# Altium footprint library Virtex.PcbLib: 22 footprints (part 1 of 2)
Each footprint in its own frame and in the unit in brackets; x right, y up, seen from the top. Pads: shape width x height; smd on the part's side, far side on the other; paste and mask are expansions set on the pad; w line width, h text height; cw(c..) or ccw(c..) is an arc to the next point about the centre after c.
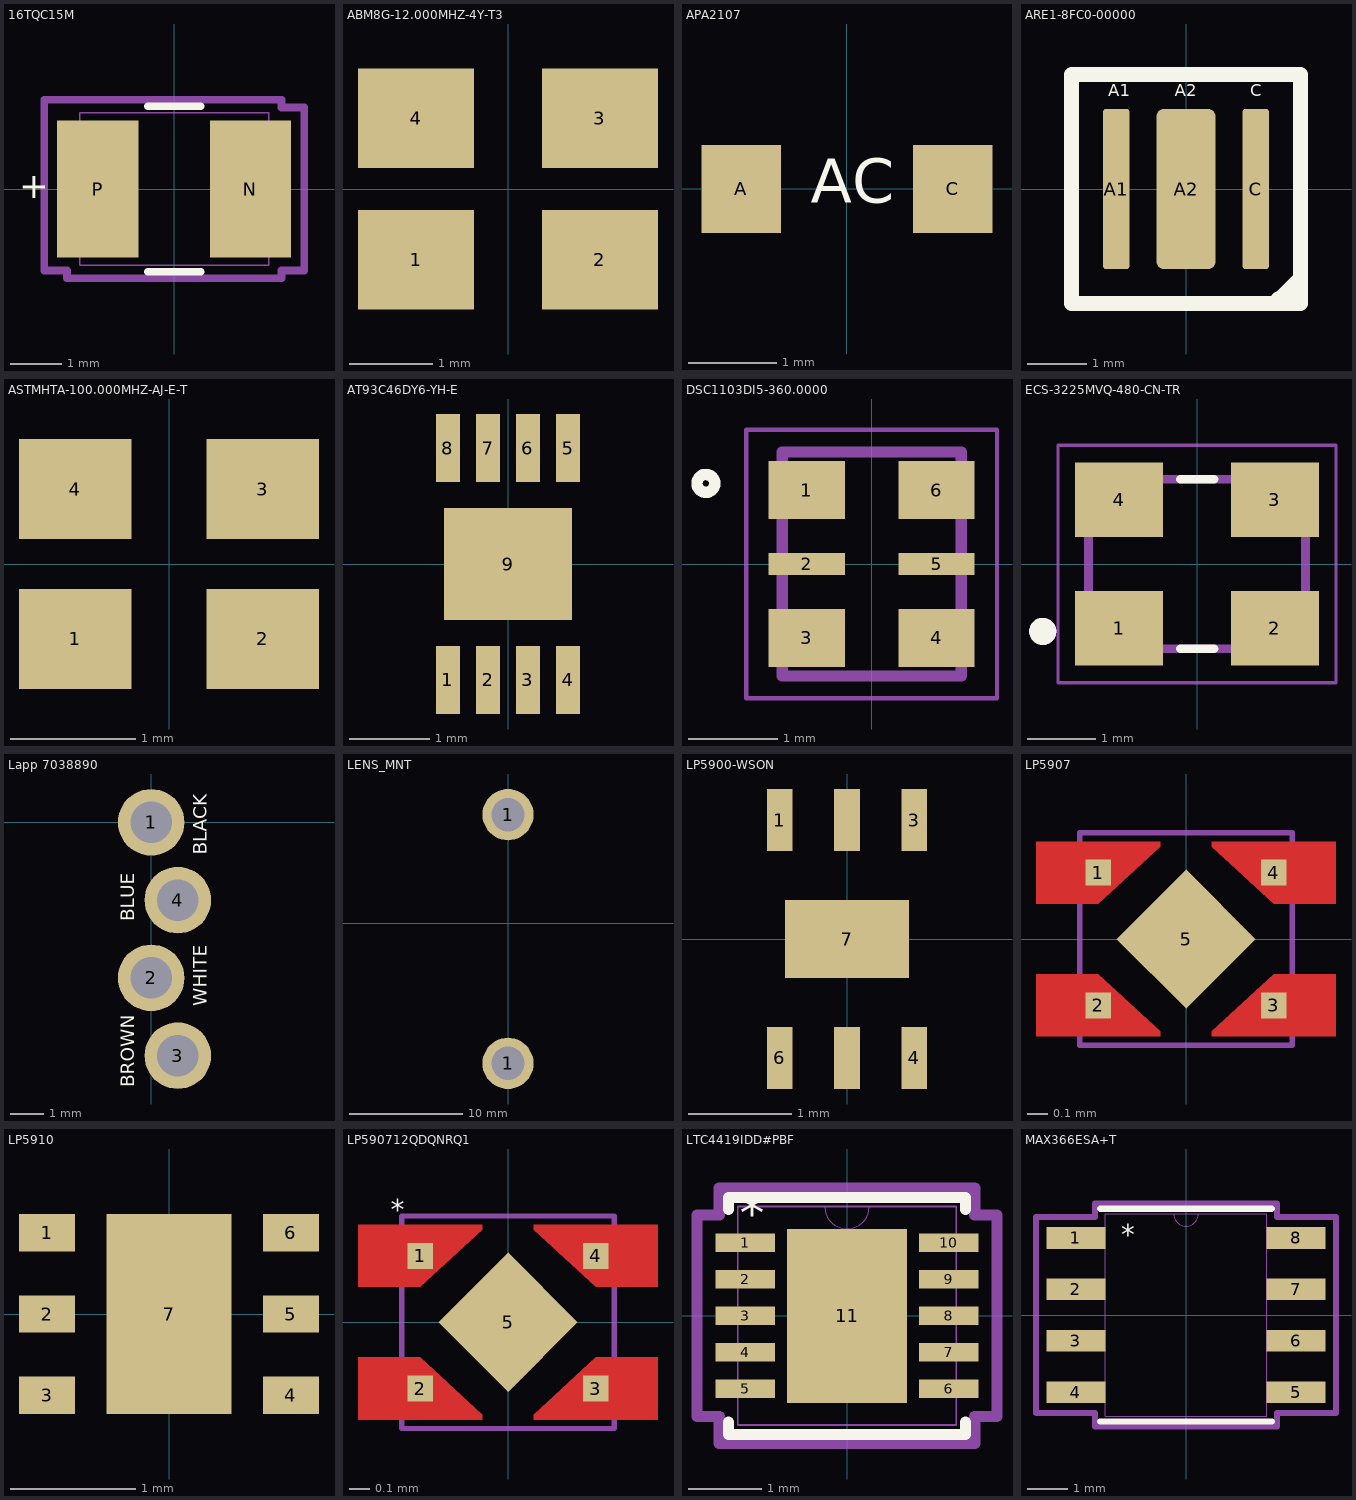
[diagram p0: the footprints below, top view; thin cyan lines are the x and y axes]

## 16TQC15M [mil]
pads (2):
  rect 63x106 smd paste+0 mask+0: N(59,0) P(-59,0)
Top Overlay:
  lines w6: -20.39,-64 20.39,-64 ; -20.39,64 20.39,64
  text "+" at -120.08,-7.27 h20
Mechanical 13:
  lines w1: -73,-59 -73,59 73,59 73,-59 -73,-59
Mechanical 15:
  lines w6: -100.5,-63 -83,-63 -83,-69 83,-69 83,-63 100.5,-63 100.5,63 83,63 83,69 -83,69 -100.5,69 -100.5,-63
3D body: height 10, standoff 0, extent 0,0 10,10
3D body "16TQC15M.step": height 79.52, standoff 0.5, extent -72.99,-59.09 73,59.1

## ABM8G-12.000MHZ-4Y-T3 [mil]
pads (4):
  rect 55x47 smd: 1(-43.5,-33.5) 2(43.5,-33.5) 3(43.5,33.5) 4(-43.5,33.5)
3D body "ABM8G-12.000MHZ-4Y-T3.STEP": height 39.37, standoff 0, extent -62.98,-49.21 63,49.22

## APA2107 [mm]
pads (2):
  rect 0.9x1 smd: A(-1.2,0) C(1.2,0)
Top Overlay:
  text "AC" at -0.408,-0.154 h0.5
3D body "APA2107.STEP": height 0.6, standoff 0, extent -1.05,-0.001 1.05,1

## ARE1-8FC0-00000 [mm]
pads (3):
  rrect25% 0.45x2.7 smd: A1(-1.175,0) C(1.175,0)
  rrect25% 1x2.7 smd: A2(0,0)
Top Overlay:
  lines w0.254: 1.549,-1.854 1.549,-1.88 1.88,-1.549 ; -1.925,-1.925 1.925,-1.925 1.925,1.925 -1.925,1.925 -1.925,-1.925
  text "C" at 1.081,1.564 h0.2
  text "A2" at -0.189,1.564 h0.2
  text "A1" at -1.306,1.564 h0.2
3D body "ARE1-8FC0-00000.step": height 1.51, standoff 0, extent -1.945,-1.95 1.905,1.9

## ASTMHTA-100.000MHZ-AJ-E-T [mm]
pads (4):
  rect 0.9x0.8 smd: 1(-0.75,-0.6) 2(0.75,-0.6) 3(0.75,0.6) 4(-0.75,0.6)
3D body "ASTMHTA-100-000MHZ-AJ-E-T.step": height 0.75, standoff 0, extent -1,-0.8 1,0.8

## AT93C46DY6-YH-E [mm]
pads (9):
  rect 0.3x0.85 smd: 1(-0.75,-1.45) 2(-0.25,-1.45) 3(0.25,-1.45) 4(0.75,-1.45) 5(0.75,1.45) 6(0.25,1.45) 7(-0.25,1.45) 8(-0.75,1.45)
  rect 1.6x1.4 smd: 9(0,0)
3D body "AT93C46DY6-YH-E.step": height 0.6, standoff 0, extent -1,-1.5 1,1.5

## DSC1103DI5-360.0000 [mm]
pads (6):
  rect 0.85x0.65 smd: 1(-0.725,0.825) 3(-0.725,-0.825) 4(0.725,-0.825) 6(0.725,0.825)
  rect 0.85x0.25 smd: 2(-0.725,0) 5(0.725,0)
Top Overlay:
  circle w0.127: c-1.85,0.9 r0.1
Mechanical 13:
  lines w0.127: -1,-1.25 -1,1.25 1,1.25 1,-1.25 -1,-1.25
Mechanical 15:
  lines w0.05: -1.4,-1.5 -1.4,1.5 1.4,1.5 1.4,-1.5 -1.4,-1.5
3D body "step_temp.STEP": height 0.88, standoff -0.02, extent -1,-1.25 1,1.25

## ECS-3225MVQ-480-CN-TR [mm]
pads (4):
  rect 1.3x1.1 smd: 1(-1.15,-0.95) 2(1.15,-0.95) 3(1.15,0.95) 4(-1.15,0.95)
Top Overlay:
  circle w0.2: c-2.275,-0.994 r0.1
  lines w0.127: -0.25,-1.25 0.25,-1.25 ; -0.25,1.25 0.25,1.25
Mechanical 13:
  circle w0.2: c-2.275,-0.994 r0.1
  lines w0.127: -1.6,-1.25 -1.6,1.25 1.6,1.25 1.6,-1.25 -1.6,-1.25
Mechanical 15:
  lines w0.05: -2.05,-1.75 2.05,-1.75 2.05,1.75 -2.05,1.75 -2.05,-1.75
3D body "ECS-3225MVQ-480-CN-TR.step": height 1.21, standoff 0.01, extent -1.6,-1.255 1.6,1.245

## Lapp 7038890 [mm]
pads (4):
  round 2 hole 1.25: 1(0,0) 2(0,-4.667) 3(0.8,-7) 4(0.8,-2.333)
Top Overlay:
  text "BLACK" at 1.67,-0.97 h0.4
  text "BROWN" at -0.505,-7.945 h0.4
  text "WHITE" at 1.67,-5.52 h0.4
  text "BLUE" at -0.505,-2.97 h0.4
Bottom Overlay:
  text "LAPP 7038890" at -1.28,-1.03 h0.4
  text "BLACK" at 1.67,0.895 h0.4
  text "BROWN" at -0.495,-6.083 h0.4
  text "WHITE" at 1.678,-3.708 h0.4
  text "BLUE" at -0.497,-1.515 h0.4

## LENS_MNT [mil]
pads (2):
  round 178.5 hole 116: 1(0,-488.19) 1(0,377.95)
3D body "LENS_MNT.step": height 896.13, standoff -164.32, extent -401.57,-579.69 401.58,469.46

## LP5900-WSON [mm]
pads (7):
  rrect0% 0.25x0.6 smd: 1(-0.65,1.15) 3(0.65,1.15) 4(0.65,-1.15) 6(-0.65,-1.15) ""(0,-1.15) ""(0,1.15)
  rrect0% 1.2x0.75 smd: 7(0,0)
3D body "LP5900-WSON.step": height 0.8, standoff 0, extent -1.092,-1.25 1.108,1.25

## LP5907 [mil]
pads (5):
  rect 5x5 smd: 1(-16.93,12.8) 2(-16.93,-12.8) 3(16.93,-12.8) 4(16.93,12.8)
  rect 19x19 smd rot 45 paste-9.5 mask+0: 5(0,0)
Top Layer:
  region: -4.93,17.8 -4.93,18.8 -28.93,18.8 -28.93,6.8 -16.93,6.8
  region: 4.93,17.8 4.93,18.8 28.93,18.8 28.93,6.8 16.93,6.8
  region: 4.93,-17.8 4.93,-18.8 28.93,-18.8 28.93,-6.8 16.93,-6.8
  region: 0,-9.5
  region: 0,9.5
  region: -4.93,-17.8 -4.93,-18.8 -28.93,-18.8 -28.93,-6.8 -16.93,-6.8
Top Solder:
  region: 0,-9.5
  region: 0,9.5
Mechanical 13:
  lines w1: -20.5,-20.5 -20.5,20.5 20.5,20.5 20.5,-20.5 -20.5,-20.5
  text "*" at -23.45,20.26 h3.94
3D body "LP590712QDQNRQ1.stp": height 14.39, standoff 0.21, extent -19.69,-19.68 19.68,19.69

## LP5910 [mm]
pads (7):
  rect 0.45x0.3 smd: 1(-0.975,0.65) 2(-0.975,0) 3(-0.975,-0.65) 4(0.975,-0.65) 5(0.975,0) 6(0.975,0.65)
  rect 1x1.6 smd: 7(0,0)
3D body "LP5910-18DRVR.step": height 0.8, standoff 0, extent -1,-1 1,1

## LP590712QDQNRQ1 [mil]
pads (5):
  rect 5x5 smd: 1(-16.93,12.8) 2(-16.93,-12.8) 3(16.93,-12.8) 4(16.93,12.8)
  rect 19x19 smd rot 45 paste-9.5 mask+0: 5(0,0)
Top Layer:
  region: -4.93,17.8 -4.93,18.8 -28.93,18.8 -28.93,6.8 -16.93,6.8
  region: 4.93,17.8 4.93,18.8 28.93,18.8 28.93,6.8 16.93,6.8
  region: 4.93,-17.8 4.93,-18.8 28.93,-18.8 28.93,-6.8 16.93,-6.8
  region: 0,-9.5
  region: 0,9.5
  region: -4.93,-17.8 -4.93,-18.8 -28.93,-18.8 -28.93,-6.8 -16.93,-6.8
Top Overlay:
  text "*" at -22.61,19.74 h3.94
Top Solder:
  region: 0,-9.5
  region: 0,9.5
Mechanical 13:
  lines w1: -20.5,-20.5 -20.5,20.5 20.5,20.5 20.5,-20.5 -20.5,-20.5
3D body "LP590712QDQNRQ1.stp": height 14.39, standoff 0.21, extent -19.69,-19.68 19.68,19.69

## LTC4419IDD#PBF [mil]
pads (11):
  rect 32x10 smd paste+0 mask+0: 1(-55,39.37) 2(-55,19.68) 3(-55,0) 4(-55,-19.68) 5(-55,-39.37) 6(55,-39.37) 7(55,-19.68) 8(55,0) 9(55,19.68) 10(55,39.37)
  rect 65x94 smd paste+0 mask+0: 11(0,0)
Top Overlay:
  lines w6: -64,-57.47 -64,-64 64,-64 64,-57.47 ; -64,57.47 -64,64 64,64 64,57.47
  text "*" at -58.03,45.69 h19.68
Mechanical 13:
  lines w0: -12,59 ccw(c0,59) 12,59
  lines w1: -59,-59 -59,59 59,59 59,-59 -59,-59
Mechanical 15:
  lines w6: -81,-54.37 -69,-54.37 -69,-69 69,-69 69,-54.37 81,-54.37 81,54.37 69,54.37 69,69 -69,69 -69,54.37 -81,54.37 -81,-54.37
3D body: height 10, standoff 0, extent 0,0 10,10
3D body "LTC4419IDD#PBF.step": height 31.5, standoff 0, extent -59,-59.06 59.11,59.06

## MAX366ESA+T [mil]
pads (8):
  rect 57.5x21 smd paste+0 mask+0: 1(-107.25,75) 2(-107.25,25) 3(-107.25,-25) 4(-107.25,-75) 5(107.25,-75) 6(107.25,-25) 7(107.25,25) 8(107.25,75)
Top Overlay:
  lines w6: -83.5,-103.5 83.5,-103.5 ; -83.5,103.5 83.5,103.5
  text "*" at -63,69 h19.68
Mechanical 13:
  lines w0: -12,98.5 ccw(c0,98.5) 12,98.5
  lines w1: -122,-84.5 -122,-65.5 -78.5,-65.5 -78.5,-84.5 -122,-84.5 ; -122,-34.5 -122,-15.5 -78.5,-15.5 -78.5,-34.5 -122,-34.5 ; -122,15.5 -122,34.5 -78.5,34.5 -78.5,15.5 -122,15.5 ; -122,65.5 -122,84.5 -78.5,84.5 -78.5,65.5 -122,65.5 ; -78.5,-98.5 78.5,-98.5 78.5,98.5 -78.5,98.5 -78.5,-98.5 ; 78.5,-84.5 78.5,-65.5 122,-65.5 122,-84.5 78.5,-84.5 ; 78.5,-34.5 78.5,-15.5 122,-15.5 122,-34.5 78.5,-34.5 ; 78.5,15.5 78.5,34.5 122,34.5 122,15.5 78.5,15.5 ; 78.5,65.5 78.5,84.5 122,84.5 122,65.5 78.5,65.5
  text "*" at -63,69 h19.68
Mechanical 15:
  lines w6: -146,-95.5 -146,95.5 -88.5,95.5 -88.5,108.5 88.5,108.5 88.5,95.5 146,95.5 146,-95.5 88.5,-95.5 88.5,-108.5 -88.5,-108.5 -88.5,-95.5 -146,-95.5
3D body: height 10, standoff 0, extent 0,0 10,10
3D body "MAX366ESA+T.step": height 69.09, standoff 0, extent -122,-97.5 122.01,99.51